# Altium schematic symbol library Microcontrolador.SchLib: 32 symbols (part 3 of 3)
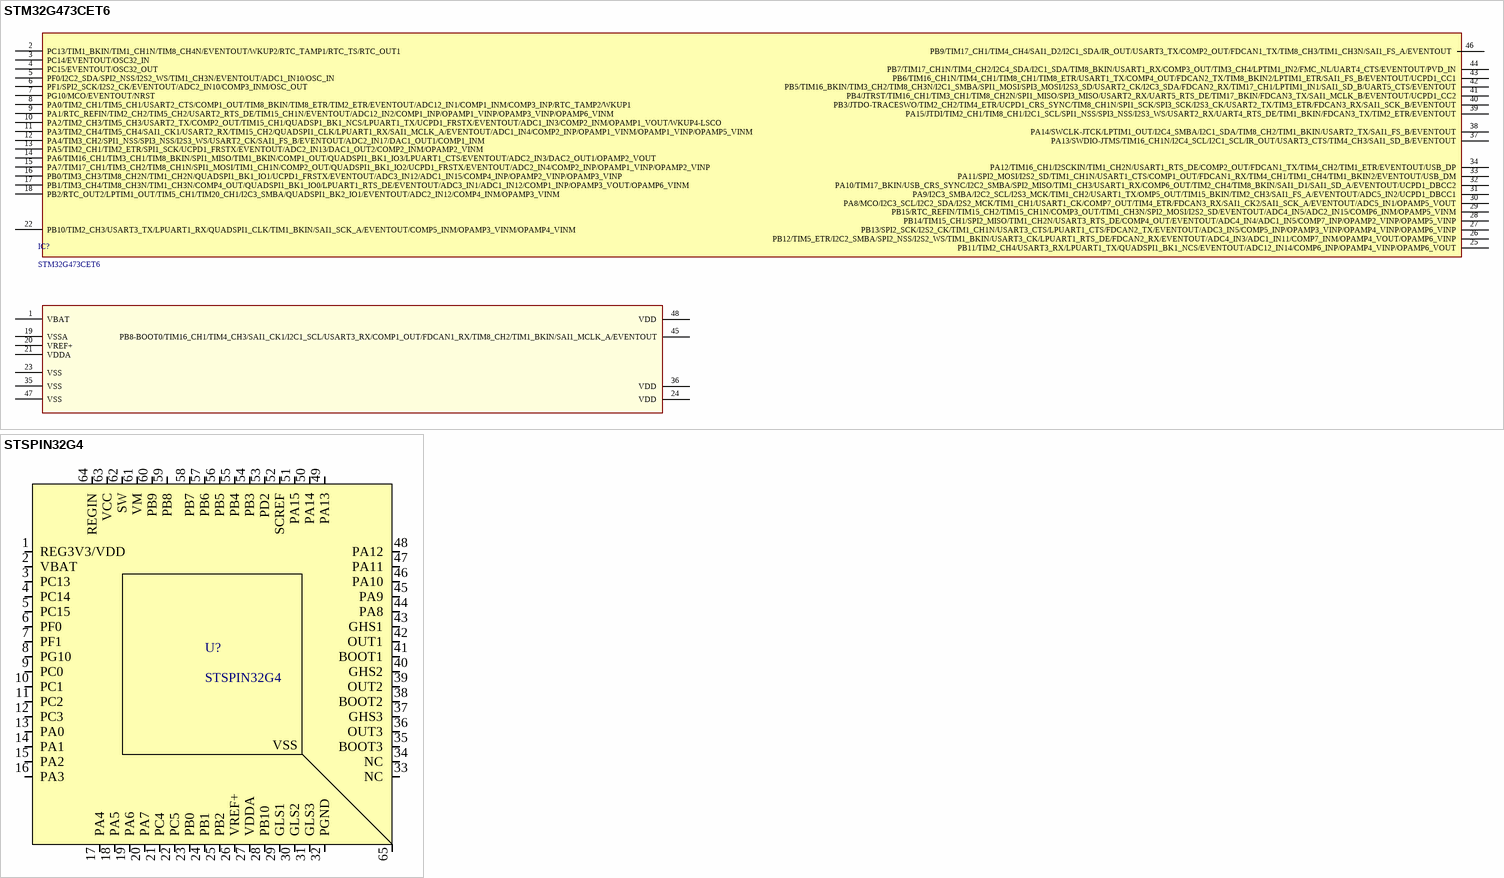
[diagram p13: symbols STM32G473CET6 to STSPIN32G4]

## STM32G473CET6
designator IC?
IC MCU 32-BIT 512kB FLASH ARM Cortex-M4 170MHZ LQFP-48; Manufacturer: STMicroelectronics; Connectivity: I2C,SPI,USART,I2S,FDCAN,LPUART,SAI,IRTIM,USB; Number of I/Os: 38; Oscillator Type: Internal; Peripherals: Reset,Timer,PWM,WDT,DMA,SPI,I2C,USART,FDCAN,LPUART,RTC,USB,JTAG,SW,SAI; RAM Size: 128 kB; Voltage - Supply (Vcc/Vdd): 1.71V ~ 3.6V; Number of Timers/Counters: 16; Number of ADC Channels: 20; Number of SPI Channels: 3; Number of I2C Channels: 4; Number of USB Channels: 1; Library Control - Checked Footprint: Yes; Library Control - Person that Checked Footprint: Gustavo; Library Control - Person that did the Last Update Footprint: Stéfany (Ster); Library Control - Person that did the Last Update Schematic: Maria Laura e Stéfany (Ster); Supplier 1: Mouser; Part Number: STM32G473CET6; Category: Microcontrollers; Price: 1=12.39, 10=11.21, 100=9.28 (USD); Package / Case: LQFP-48; Operating Temperature: -40C ~ 85C; Speed: 170 MHz; Program Memory Type: Flash; Program Memory Size: 512 kB; Core Processor: ARM Cortex-M4; Core Size: 32-bit; Number of UART/USART Channels: 3; Number of Ethernet Channels: -; Series: STM32G4; Library Ref: Microcontroller; Supplier Part Number 1: 511-STM32G473CET6; Library Control - Checked Schematic: Yes; Library Control - Last Update: 19/08/2022 21:00; Library Control - Person that Checked Schematic: Gustavo; ComponentLink1Description: Mouser Link; ComponentLink1URL: https://br.mouser.com/ProductDetail/STMicroelectronics/STM32G473CET6?qs=%2Fha2pyFadugVtlbo%2FWUwLI3R4X1TJgx3aX17ruMaJC1sRY7ScX04HFchveevODbM; ComponentLink2Description: Datasheet; ComponentLink2URL: https://br.mouser.com/datasheet/2/389/dm00528822-1799294.pdf
footprint LQFP-48
pins: 1 VBAT, 2 PC13/TIM1_BKIN/TIM1_CH1N/TIM8_CH4N/EVENTOUT/WKUP2/RTC_TAMP1/RTC_TS/RTC_OUT1, 3 PC14/EVENTOUT/OSC32_IN, 4 PC15/EVENTOUT/OSC32_OUT, 5 PF0/I2C2_SDA/SPI2_NSS/I2S2_WS/TIM1_CH3N/EVENTOUT/ADC1_IN10/OSC_IN, 6 PF1/SPI2_SCK/I2S2_CK/EVENTOUT/ADC2_IN10/COMP3_INM/OSC_OUT, 7 PG10/MCO/EVENTOUT/NRST, 8 PA0/TIM2_CH1/TIM5_CH1/USART2_CTS/COMP1_OUT/TIM8_BKIN/TIM8_ETR/TIM2_ETR/EVENTOUT/ADC12_IN1/COMP1_INM/COMP3_INP/RTC_TAMP2/WKUP1, 9 PA1/RTC_REFIN/TIM2_CH2/TIM5_CH2/USART2_RTS_DE/TIM15_CH1N/EVENTOUT/ADC12_IN2/COMP1_INP/OPAMP1_VINP/OPAMP3_VINP/OPAMP6_VINM, 10 PA2/TIM2_CH3/TIM5_CH3/USART2_TX/COMP2_OUT/TIM15_CH1/QUADSP1_BK1_NCS/LPUART1_TX/UCPD1_FRSTX/EVENTOUT/ADC1_IN3/COMP2_INM/OPAMP1_VOUT/WKUP4-LSCO, 11 PA3/TIM2_CH4/TIM5_CH4/SAI1_CK1/USART2_RX/TIM15_CH2/QUADSPI1_CLK/LPUART1_RX/SAI1_MCLK_A/EVENTOUT/ADC1_IN4/COMP2_INP/OPAMP1_VINM/OPAMP1_VINP/OPAMP5_VINM, 12 PA4/TIM3_CH2/SPI1_NSS/SPI3_NSS/I2S3_WS/USART2_CK/SAI1_FS_B/EVENTOUT/ADC2_IN17/DAC1_OUT1/COMP1_INM, 13 PA5/TIM2_CH1/TIM2_ETR/SPI1_SCK/UCPD1_FRSTX/EVENTOUT/ADC2_IN13/DAC1_OUT2/COMP2_INM/OPAMP2_VINM, 14 PA6/TIM16_CH1/TIM3_CH1/TIM8_BKIN/SPI1_MISO/TIM1_BKIN/COMP1_OUT/QUADSPI1_BK1_IO3/LPUART1_CTS/EVENTOUT/ADC2_IN3/DAC2_OUT1/OPAMP2_VOUT, 15 PA7/TIM17_CH1/TIM3_CH2/TIM8_CH1N/SPI1_MOSI/TIM1_CH1N/COMP2_OUT/QUADSPI1_BK1_IO2/UCPD1_FRSTX/EVENTOUT/ADC2_IN4/COMP2_INP/OPAMP1_VINP/OPAMP2_VINP, 16 PB0/TIM3_CH3/TIM8_CH2N/TIM1_CH2N/QUADSPI1_BK1_IO1/UCPD1_FRSTX/EVENTOUT/ADC3_IN12/ADC1_IN15/COMP4_INP/OPAMP2_VINP/OPAMP3_VINP, 17 PB1/TIM3_CH4/TIM8_CH3N/TIM1_CH3N/COMP4_OUT/QUADSPI1_BK1_IO0/LPUART1_RTS_DE/EVENTOUT/ADC3_IN1/ADC1_IN12/COMP1_INP/OPAMP3_VOUT/OPAMP6_VINM, 18 PB2/RTC_OUT2/LPTIM1_OUT/TIM5_CH1/TIM20_CH1/I2C3_SMBA/QUADSPI1_BK2_IO1/EVENTOUT/ADC2_IN12/COMP4_INM/OPAMP3_VINM, 19 VSSA, 20 VREF+, 21 VDDA, 22 PB10/TIM2_CH3/USART3_TX/LPUART1_RX/QUADSPI1_CLK/TIM1_BKIN/SAI1_SCK_A/EVENTOUT/COMP5_INM/OPAMP3_VINM/OPAMP4_VINM, 23 VSS, 24 VDD, 25 PB11/TIM2_CH4/USART3_RX/LPUART1_TX/QUADSPI1_BK1_NCS/EVENTOUT/ADC12_IN14/COMP6_INP/OPAMP4_VINP/OPAMP6_VOUT, 26 PB12/TIM5_ETR/I2C2_SMBA/SPI2_NSS/I2S2_WS/TIM1_BKIN/USART3_CK/LPUART1_RTS_DE/FDCAN2_RX/EVENTOUT/ADC4_IN3/ADC1_IN11/COMP7_INM/OPAMP4_VOUT/OPAMP6_VINP, 27 PB13/SPI2_SCK/I2S2_CK/TIM1_CH1N/USART3_CTS/LPUART1_CTS/FDCAN2_TX/EVENTOUT/ADC3_IN5/COMP5_INP/OPAMP3_VINP/OPAMP4_VINP/OPAMP6_VINP, 28 PB14/TIM15_CH1/SPI2_MISO/TIM1_CH2N/USART3_RTS_DE/COMP4_OUT/EVENTOUT/ADC4_IN4/ADC1_IN5/COMP7_INP/OPAMP2_VINP/OPAMP5_VINP, 29 PB15/RTC_REFIN/TIM15_CH2/TIM15_CH1N/COMP3_OUT/TIM1_CH3N/SPI2_MOSI/I2S2_SD/EVENTOUT/ADC4_IN5/ADC2_IN15/COMP6_INM/OPAMP5_VINM, 30 PA8/MCO/I2C3_SCL/I2C2_SDA/I2S2_MCK/TIM1_CH1/USART1_CK/COMP7_OUT/TIM4_ETR/FDCAN3_RX/SAI1_CK2/SAI1_SCK_A/EVENTOUT/ADC5_IN1/OPAMP5_VOUT, 31 PA9/I2C3_SMBA/I2C2_SCL/I2S3_MCK/TIM1_CH2/USART1_TX/OMP5_OUT/TIM15_BKIN/TIM2_CH3/SAI1_FS_A/EVENTOUT/ADC5_IN2/UCPD1_DBCC1, 32 PA10/TIM17_BKIN/USB_CRS_SYNC/I2C2_SMBA/SPI2_MISO/TIM1_CH3/USART1_RX/COMP6_OUT/TIM2_CH4/TIM8_BKIN/SAI1_D1/SAI1_SD_A/EVENTOUT/UCPD1_DBCC2, 33 PA11/SPI2_MOSI/I2S2_SD/TIM1_CH1N/USART1_CTS/COMP1_OUT/FDCAN1_RX/TIM4_CH1/TIM1_CH4/TIM1_BKIN2/EVENTOUT/USB_DM, 34 PA12/TIM16_CH1/I2SCKIN/TIM1_CH2N/USART1_RTS_DE/COMP2_OUT/FDCAN1_TX/TIM4_CH2/TIM1_ETR/EVENTOUT/USB_DP, 35 VSS, 36 VDD, 37 PA13/SWDIO-JTMS/TIM16_CH1N/I2C4_SCL/I2C1_SCL/IR_OUT/USART3_CTS/TIM4_CH3/SAI1_SD_B/EVENTOUT, 38 PA14/SWCLK-JTCK/LPTIM1_OUT/I2C4_SMBA/I2C1_SDA/TIM8_CH2/TIM1_BKIN/USART2_TX/SAI1_FS_B/EVENTOUT, 39 PA15/JTDI/TIM2_CH1/TIM8_CH1/I2C1_SCL/SPI1_NSS/SPI3_NSS/I2S3_WS/USART2_RX/UART4_RTS_DE/TIM1_BKIN/FDCAN3_TX/TIM2_ETR/EVENTOUT, 40 PB3/JTDO-TRACESWO/TIM2_CH2/TIM4_ETR/UCPD1_CRS_SYNC/TIM8_CH1N/SPI1_SCK/SPI3_SCK/I2S3_CK/USART2_TX/TIM3_ETR/FDCAN3_RX/SAI1_SCK_B/EVENTOUT, 41 PB4/JTRST/TIM16_CH1/TIM3_CH1/TIM8_CH2N/SPI1_MISO/SPI3_MISO/USART2_RX/UART5_RTS_DE/TIM17_BKIN/FDCAN3_TX/SAI1_MCLK_B/EVENTOUT/UCPD1_CC2, 42 PB5/TIM16_BKIN/TIM3_CH2/TIM8_CH3N/I2C1_SMBA/SPI1_MOSI/SPI3_MOSI/I2S3_SD/USART2_CK/I2C3_SDA/FDCAN2_RX/TIM17_CH1/LPTIM1_IN1/SAI1_SD_B/UART5_CTS/EVENTOUT, 43 PB6/TIM16_CH1N/TIM4_CH1/TIM8_CH1/TIM8_ETR/USART1_TX/COMP4_OUT/FDCAN2_TX/TIM8_BKIN2/LPTIM1_ETR/SAI1_FS_B/EVENTOUT/UCPD1_CC1, 44 PB7/TIM17_CH1N/TIM4_CH2/I2C4_SDA/I2C1_SDA/TIM8_BKIN/USART1_RX/COMP3_OUT/TIM3_CH4/LPTIM1_IN2/FMC_NL/UART4_CTS/EVENTOUT/PVD_IN, 45 PB8-BOOT0/TIM16_CH1/TIM4_CH3/SAI1_CK1/I2C1_SCL/USART3_RX/COMP1_OUT/FDCAN1_RX/TIM8_CH2/TIM1_BKIN/SAI1_MCLK_A/EVENTOUT, 46 PB9/TIM17_CH1/TIM4_CH4/SAI1_D2/I2C1_SDA/IR_OUT/USART3_TX/COMP2_OUT/FDCAN1_TX/TIM8_CH3/TIM1_CH3N/SAI1_FS_A/EVENTOUT, 47 VSS, 48 VDD

## STSPIN32G4
designator U?
High performance 3-phase motor controller with embedded STM32G4 MCU; Manufacturer: STMicroelectronics; Output Current: 1 A; Operating Supply Current: 200 mA; Output Voltage: 3.3 V; Supply Voltage - Max: 75 V; Supply Voltage - Min: 5.5 V; Product Category: Motor / Motion / Ignition Controllers & Drivers; Product: Brushless DC Motor Controllers; Type: 3 Phase; Minimum Operating Temperature: - 40 C; Maximum Operating Temperature: + 125 C; Mounting Style: SMD/SMT; Package / Case: VFQFPN-64
footprint QFN50-STSPING4 (QFN, 64-Leads, Body 9,00x9,00mm, Pitch 0,50mm, Thermal Pad 4,10x4,10mm, IPC Medium Density)
pins: 1 REG3V3/VDD  (power) "3.3V LDO regulator output and control logic supply voltage", 2 VBAT "MCU backup supply", 3 PC13 "I/O – FT", 4 PC14, 5 PC15, 6 PF0 "I – FT_fa", 7 PF1 "O – FT_a", 8 PG10 "I/O - FT", 9 PC0 "I/O – FT_a", 10 PC1 "I/O – TT_a", 11 PC2 "I/O – FT_a", 12 PC3 "I/O – FT_a", 13 PA0 "I/O – TT_a", 14 PA1, 15 PA2 "I/O – TT_a", 16 PA3 "I/O – TT_a", 17 PA4 "I/O – TT_a", 18 PA5 "I/O – TT_a", 19 PA6 "I/O – TT_a", 20 PA7 "I/O – TT_a", 21 PC4 "I/O - FT_fa", 22 PC5 "I/O – TT_a", 23 PB0 "I/O – TT_a", 24 PB1 "I/O – TT_a", 25 PB2 "I/O – TT_a", 26 VREF+ (power) "MCU VREF+, VREFBUF_OUT", 27 VDDA (power) "MCU analog supply voltage", 28 PB10 "I/O – TT_a", 29 GLS1 "Phase 1 low-side driver output", 30 GLS2 "Phase 2 low-side driver output", 31 GLS3 "Phase 3 low-side driver output", 32 PGND (power) "Gate drivers power ground", 33 NC "Internally not connected", 34 NC "Internally not connected", 35 BOOT3 (power) "Phase 3 bootstrap supply voltage", 36 OUT3 (power) "Phase 3 high-side (floating) common voltage", 37 GHS3 "Phase 3 high-side driver output", 38 BOOT2 (power) "Phase 2 bootstrap supply voltage", 39 OUT2 (power) "Phase 2 high-side (floating) common voltage", 40 GHS2 "Phase 2 high-side driver output", 41 BOOT1 (power) "Phase 1 bootstrap supply voltage", 42 OUT1 (power) "Phase 1 high-side (floating) common voltage", 43 GHS1 "Phase 1 high-side driver output", 44 PA8 "I/O – FT_f", 45 PA9 "I/O – FT_fd", 46 PA10 "I/O – FT_da", 47 PA11 "I/O – FT_u", 48 PA12 "I/O – FT_u", 49 PA13 "I/O – FT_f", 50 PA14 "I/O – FT_f", 51 PA15 "I/O – FT_f", 52 SCREF "Set the threshold voltage of the short-circuit protection", 53 PD2 "I/O – FT", 54 PB3 "I/O – FT", 55 PB4 "I/O – FT_c", 56 PB5 "I/O – FT_f", 57 PB6 "I/O – FT_c", 58 PB7 "I/O – FT_f", 59 PB8 "I/O – FT_f", 60 PB9 "I/O – FT_f", 61 VM (power) "Power supply voltage (Motor supply voltage)", 62 SW (power) "Buck regulator switching output", 63 VCC (power) "Gate driver supply voltage", 64 REGIN (power) "3.3 V LDO regulator input", 65 VSS (power) "Control logic ground"